# EAGLE library part LSM6DS3US (library LSM6DS3US)
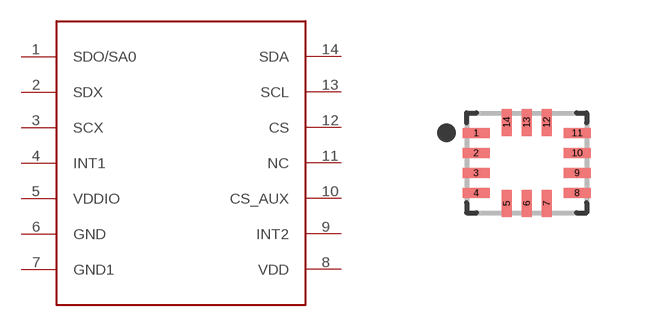
[diagram p0: symbol with the pads of LGA14R50P5X4_300X250X83; footprint LGA14R50P5X4_300X250X83]

Designator prefix -

## LSM6DS3US (Availability: Unavailable; Description: iNEMO inertial module: 3D accelerometer and 3D gyroscope; MF: STMicroelectronics; MP: LSM6DS3US; Package: None; Price: None)  [LGA14R50P5X4_300X250X83]
1  SDO/SA0
2  SDX
3  SCX
4  INT1
5  VDDIO
6  GND
7  GND1
8  VDD
9  INT2
10  CS_AUX
11  NC
12  CS
13  SCL
14  SDA

## Footprint LGA14R50P5X4_300X250X83 (pad centres in mm)
smd 0.675 x 0.25: 1 -1.262,0.75; 2 -1.262,0.25; 3 -1.262,-0.25; 4 -1.262,-0.75; 8 1.262,-0.75; 9 1.262,-0.25; 10 1.262,0.25; 11 1.262,0.75
smd 0.25 x 0.675: 5 -0.5,-1.012; 6 0,-1.012; 7 0.5,-1.012; 12 0.5,1.012; 13 0,1.012; 14 -0.5,1.012